# EAGLE library part STM32F407-VGT6-64 (library CPSS_CPU)
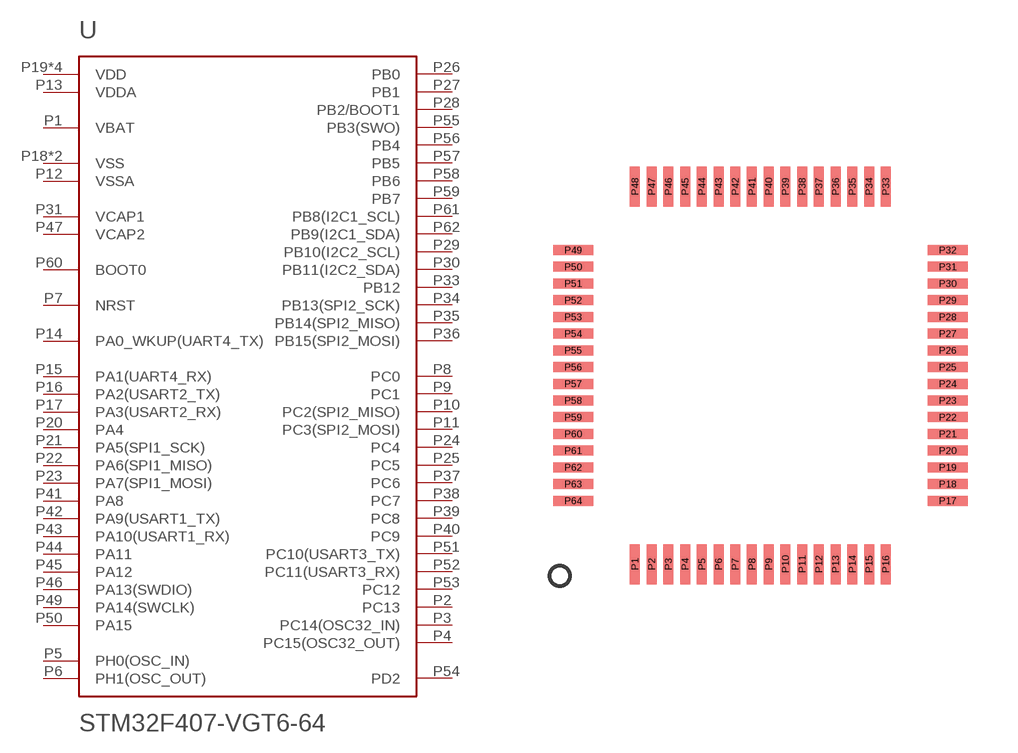
[diagram p6: symbol with the pads of LQFP64; footprint LQFP64]

Designator prefix U

## STM32F407-VGT6-64  [LQFP64]
P1  VBAT
P2  PC13
P3  PC14(OSC32_IN)
P4  PC15(OSC32_OUT)
P5  PH0(OSC_IN)
P6  PH1(OSC_OUT)
P7  NRST
P8  PC0
P9  PC1
P10  PC2(SPI2_MISO)
P11  PC3(SPI2_MOSI)
P12  VSSA
P13  VDDA
P14  PA0_WKUP(UART4_TX)
P15  PA1(UART4_RX)
P16  PA2(USART2_TX)
P17  PA3(USART2_RX)
P18  VSS
P19  VDD
P20  PA4
P21  PA5(SPI1_SCK)
P22  PA6(SPI1_MISO)
P23  PA7(SPI1_MOSI)
P24  PC4
P25  PC5
P26  PB0
P27  PB1
P28  PB2/BOOT1
P29  PB10(I2C2_SCL)
P30  PB11(I2C2_SDA)
P31  VCAP1
P32  VDD
P33  PB12
P34  PB13(SPI2_SCK)
P35  PB14(SPI2_MISO)
P36  PB15(SPI2_MOSI)
P37  PC6
P38  PC7
P39  PC8
P40  PC9
P41  PA8
P42  PA9(USART1_TX)
P43  PA10(USART1_RX)
P44  PA11
P45  PA12
P46  PA13(SWDIO)
P47  VCAP2
P48  VDD
P49  PA14(SWCLK)
P50  PA15
P51  PC10(USART3_TX)
P52  PC11(USART3_RX)
P53  PC12
P54  PD2
P55  PB3(SWO)
P56  PB4
P57  PB5
P58  PB6
P59  PB7
P60  BOOT0
P61  PB8(I2C1_SCL)
P62  PB9(I2C1_SDA)
P63  VSS
P64  VDD

## Footprint LQFP64 (pad centres in mm)
smd 0.3 x 1.2: P1 -3.75,-5.65; P2 -3.25,-5.65; P3 -2.75,-5.65; P4 -2.25,-5.65; P5 -1.75,-5.65; P6 -1.25,-5.65; P7 -0.75,-5.65; P8 -0.25,-5.65; P9 0.25,-5.65; P10 0.75,-5.65; P11 1.25,-5.65; P12 1.75,-5.65; P13 2.25,-5.65; P14 2.75,-5.65; P15 3.25,-5.65; P16 3.75,-5.65; P33 3.75,5.65; P34 3.25,5.65; P35 2.75,5.65; P36 2.25,5.65; P37 1.75,5.65; P38 1.25,5.65; P39 0.75,5.65; P40 0.25,5.65; P41 -0.25,5.65; P42 -0.75,5.65; P43 -1.25,5.65; P44 -1.75,5.65; P45 -2.25,5.65; P46 -2.75,5.65; P47 -3.25,5.65; P48 -3.75,5.65
smd 1.2 x 0.3: P17 5.6,-3.75; P18 5.6,-3.25; P19 5.6,-2.75; P20 5.6,-2.25; P21 5.6,-1.75; P22 5.6,-1.25; P23 5.6,-0.75; P24 5.6,-0.25; P25 5.6,0.25; P26 5.6,0.75; P27 5.6,1.25; P28 5.6,1.75; P29 5.6,2.25; P30 5.6,2.75; P31 5.6,3.25; P32 5.6,3.75; P49 -5.6,3.75; P50 -5.6,3.25; P51 -5.6,2.75; P52 -5.6,2.25; P53 -5.6,1.75; P54 -5.6,1.25; P55 -5.6,0.75; P56 -5.6,0.25; P57 -5.6,-0.25; P58 -5.6,-0.75; P59 -5.6,-1.25; P60 -5.6,-1.75; P61 -5.6,-2.25; P62 -5.6,-2.75; P63 -5.6,-3.25; P64 -5.6,-3.75